# Altium schematic symbol library CBSchLib.SchLib: 33 symbols
Pins are listed as number, name and electrical type; pins without a type are passive.

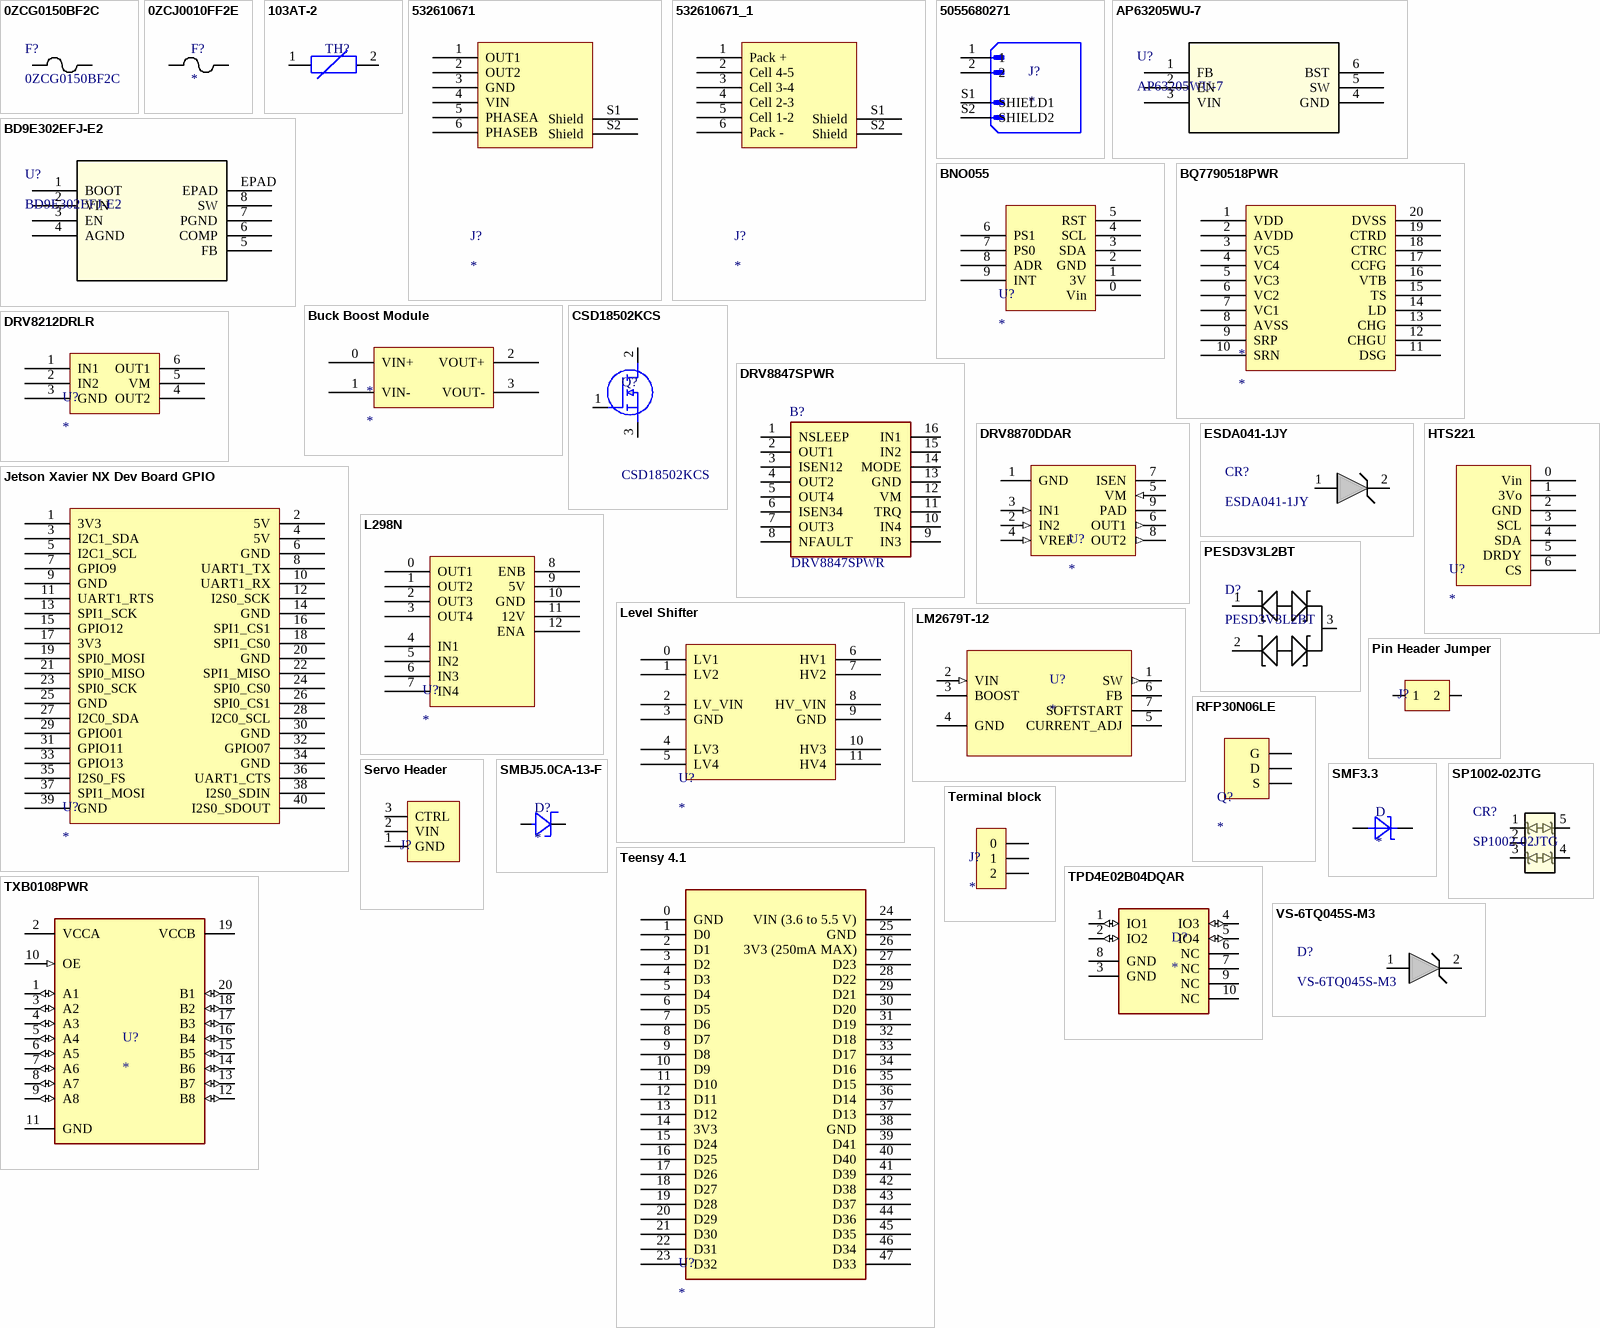
[diagram p0: symbols 0ZCG0150BF2C to VS-6TQ045S-M3]

## 0ZCG0150BF2C
designator F?
Polymeric PTC Resettable Fuse 24V 1.5 A Ih Surface Mount 1812 (4532 Metric), Concave; Mfr_Name: Belfuse; Type: DEV; Copyright: Copyright (C) 2023 Ultra Librarian. All rights reserved.; Manufacturer_Part_Number: 0ZCG0150BF2C; Digi-Key_Part_Number_1: 507-1773-1-ND; Digi-Key_Part_Number_2: 507-1773-2-ND; Digi-Key_Part_Number_3: 507-1773-6-ND; RefDes: RefDes
footprint 0ZCG_BEL
pins: 1, 2

## 0ZCJ0010FF2E
designator F?
Polymeric PTC Resettable Fuse 60V 100 mA Ih Surface Mount 1206 (3216 Metric), Concave; MP: 0ZCJ0010FF2E; MF: Bel Fuse; SnapEDA_Link: https://www.snapeda.com/parts/0ZCJ0010FF2E/Bel%20Fuse%20Inc./view-part/1315579/?ref=snap; Price: None; Package: 1206 Bel Fuse; Availability: Unavailable; Value: *
footprint RESC3216X125N
pins: 1, 2

## 103AT-2
designator TH?
NTC Thermistors 10kohm 1%
footprint 103At-2
pins: 1, 2

## 532610671
designator J?
Conn Shrouded Header (4 Sides) HDR 6 POS 1.25mm Solder RA Side Entry SMD PicoBlade™ T/R
footprint MOLEX_532610671
pins: 1 OUT1, 2 OUT2, 3 GND, 4 VIN, 5 PHASEA, 6 PHASEB, S1 Shield, S2 Shield

## 532610671_1
designator J?
Conn Shrouded Header (4 Sides) HDR 6 POS 1.25mm Solder RA Side Entry SMD PicoBlade™ T/R
footprint MOLEX_532610671
pins: 1 Pack +, 2 Cell 4-5, 3 Cell 3-4, 4 Cell 2-3, 5 Cell 1-2, 6 Pack -, S1 Shield, S2 Shield

## 5055680271
designator J?
1.25mm Pitch, Micro-Lock Plus PCB Header, Single Row, Vertical, Surface Mount, Tin-Bismuth Plating, Positive Lock, 2 Circuits, with Pick-and-Place Polyimide Tape, Black; MF: Molex; MP: 5055680271; Availability: In Stock; Price: None; Purchase-URL: https://pricing.snapeda.com/search/part/5055680271/?ref=eda; Package: None; SnapEDA_Link: https://www.snapeda.com/parts/5055680271/Molex/view-part/?ref=snap; Value: *; Check_prices: https://www.snapeda.com/parts/5055680271/Molex/view-part/?ref=eda
footprint MOLEX_5055680271
pins: 1, 2, S1 SHIELD1, S2 SHIELD2

## AP63205WU-7
designator U?
No Description Available; Mfr_Name: Diodes Inc; Copyright: Copyright (C) 2023 Ultra Librarian. All rights reserved.; Manufacturer_Part_Number: AP63205WU-7; Digi-Key_Part_Number_1: AP63205WU-7DITR-ND; Digi-Key_Part_Number_2: AP63205WU-7DICT-ND; Digi-Key_Part_Number_3: AP63205WU-7DIDKR-ND; RefDes: RefDes; Type: DEV
footprint SOIC_05WU-7_DIO
pins: 1 FB, 2 EN, 3 VIN, 4 GND, 5 SW, 6 BST

## BD9E302EFJ-E2
designator U?
No Description Available; Mfr_Name: ROHM Semiconductor; Copyright: Copyright (C) 2023 Ultra Librarian. All rights reserved.; Manufacturer_Part_Number: BD9E302EFJ-E2; Digi-Key_Part_Number_1: BD9E302EFJ-E2TR-ND; Digi-Key_Part_Number_2: BD9E302EFJ-E2CT-ND; Digi-Key_Part_Number_3: BD9E302EFJ-E2DKR-ND; RefDes: RefDes; Type: DEV
footprint HTSOP-J8_ROM
pins: 1 BOOT, 2 VIN, 3 EN, 4 AGND, 5 FB, 6 COMP, 7 PGND, 8 SW, EPAD

## BNO055
designator U?
footprint BNO555 - Header Mode
pins: 0 Vin, 1 3V, 2 GND, 3 SDA, 4 SCL, 5 RST, 6 PS1, 7 PS0, 8 ADR, 9 INT

## BQ7790518PWR
designator *
footprint SOP65P640X120-20N
pins: 1 VDD, 2 AVDD, 3 VC5, 4 VC4, 5 VC3, 6 VC2, 7 VC1, 8 AVSS, 9 SRP, 10 SRN, 11 DSG, 12 CHGU, 13 CHG, 14 LD, 15 TS, 16 VTB, 17 CCFG, 18 CTRC, 19 CTRD, 20 DVSS

## Buck Boost Module
designator *
Lowkey a placeholder
pins: 0 VIN+, 1 VIN-, 2 VOUT+, 3 VOUT-

## CSD18502KCS
designator Q?
40V, N ch NexFET MOSFET, single TO-220, 2.9mOhm; Manufacturer_Name: Texas Instruments; Geometry.Height: 4.7mm; Mouser Part Number: 595-CSD18502KCS; Mouser Price/Stock: https://www.mouser.co.uk/ProductDetail/Texas-Instruments/CSD18502KCS?qs=vnbNJPHmPnMgIZsUWlws9A%3D%3D; Manufacturer_Part_Number: CSD18502KCS; Datasheet Link: http://www.ti.com/lit/gpn/csd18502kcs
footprint TO254P470X1016X2005-3P
pins: 1 G, 2 D, 3 S

## DRV8212DRLR
designator U?
12-V, 2-A LOW VOLTAGE H-BRIDGE M
footprint SOT50P160X60-6N
pins: 1 IN1, 2 IN2, 3 GND, 4 OUT2, 5 VM, 6 OUT1

## DRV8847SPWR
designator B?
2A Dual H-Bridge Motor Driver; Manufacturer_Name: Texas Instruments; Geometry.Height: 1.2mm; Mouser Part Number: 595-DRV8847SPWR; Mouser Price/Stock: https://www.mouser.co.uk/ProductDetail/Texas-Instruments/DRV8847SPWR?qs=9r4v7xj2Lnlmf%252B8W7fojtg%3D%3D; Manufacturer_Part_Number: DRV8847SPWR; Datasheet Link: http://www.ti.com/lit/gpn/DRV8847
footprint SOP65P640X120-16N
pins: 1 NSLEEP, 2 OUT1, 3 ISEN12, 4 OUT2, 5 OUT4, 6 ISEN34, 7 OUT3, 8 NFAULT, 9 IN3, 10 IN4, 11 TRQ, 12 VM, 13 GND, 14 MODE, 15 IN2, 16 IN1

## DRV8870DDAR
designator U?
45-V, 3.6-A H-bridge motor driver with current regulation 8-SO PowerPAD -40 to 125; MP: DRV8870DDAR; MF: Texas Instruments; Package: HSOIC-8 Texas Instruments; Purchase-URL: https://pricing.snapeda.com/search/part/DRV8870DDAR/?ref=eda; Digi-Key_Part_Number: 296-42660-1-ND; SnapEDA_Link: https://www.snapeda.com/parts/DRV8870DDAR/Texas%20Instruments/view-part/591151/?ref=snap; Value: *
footprint VREG_LM5017MR/NOPB
pins: 1 GND (power), 2 IN2 (in), 3 IN1 (in), 4 VREF (in), 5 VM (in), 6 OUT1 (out), 7 ISEN (power), 8 OUT2 (out), 9 PAD (power)

## ESDA041-1JY
designator CR?
9V Clamp 20A (8/20µs) Ipp Tvs Diode Surface Mount SOD-323; Mfr_Name: STMicroelectronics; Type: DEV; Copyright: Copyright (C) 2023 Ultra Librarian. All rights reserved.; Manufacturer_Part_Number: ESDA041-1JY; Digi-Key_Part_Number_1: 497-ESDA041-1JYTR-ND; Digi-Key_Part_Number_2: 497-ESDA041-1JYCT-ND; Digi-Key_Part_Number_3: 497-ESDA041-1JYDKR-ND; RefDes: RefDes
footprint CR_041-1JY_STM
pins: 1 A, 2 K

## HTS221
designator U?
footprint HTS221
pins: 0 Vin, 1 3Vo, 2 GND, 3 SCL, 4 SDA, 5 DRDY, 6 CS

## Jetson Xavier NX Dev Board GPIO
designator U?
Just the GPIO expansion header for the Jetson Xavier NX Dev Board, this is so there is a contact point on the board placed next to the mount of the board to interface with other compenents
footprint Xavier Interface
pins: 1 3V3, 2 5V, 3 I2C1_SDA, 4 5V, 5 I2C1_SCL, 6 GND, 7 GPIO9, 8 UART1_TX, 9 GND, 10 UART1_RX, 11 UART1_RTS, 12 I2S0_SCK, 13 SPI1_SCK, 14 GND, 15 GPIO12, 16 SPI1_CS1, 17 3V3, 18 SPI1_CS0, 19 SPI0_MOSI, 20 GND, 21 SPI0_MISO, 22 SPI1_MISO, 23 SPI0_SCK, 24 SPI0_CS0, 25 GND, 26 SPI0_CS1, 27 I2C0_SDA, 28 I2C0_SCL, 29 GPIO01, 30 GND, 31 GPIO11, 32 GPIO07, 33 GPIO13, 34 GND, 35 I2S0_FS, 36 UART1_CTS, 37 SPI1_MOSI, 38 I2S0_SDIN, 39 GND, 40 I2S0_SDOUT

## L298N
designator U?
pins: 0 OUT1, 1 OUT2, 2 OUT3, 3 OUT4, 4 IN1, 5 IN2, 6 IN3, 7 IN4, 8 ENB, 9 5V, 10 GND, 11 12V, 12 ENA

## Level Shifter
designator U?
pins: 0 LV1, 1 LV2, 2 LV_VIN, 3 GND, 4 LV3, 5 LV4, 6 HV1, 7 HV2, 8 HV_VIN, 9 GND, 10 HV3, 11 HV4

## LM2679T-12
designator U?
IC BUCK 12V 5A; MP: LM2679T-12; Package: None; Price: None; Value: *; Availability: Unavailable
footprint TO127P457X1016X2052-7P
pins: 1 SW (out), 2 VIN (in), 3 BOOST, 4 GND, 5 CURRENT_ADJ, 6 FB, 7 SOFTSTART

## PESD3V3L2BT
designator D?
No Description Available; Mfr_Name: NXP; Type: DEV; Copyright: Copyright (C) 2023 Ultra Librarian. All rights reserved.; Manufacturer_Part_Number: PESD3V3L2BT; Digi-Key_Part_Number_1: 568-4041-2-ND; Digi-Key_Part_Number_2: 568-4041-1-ND; Digi-Key_Part_Number_3: 568-4041-6-ND; RefDes: RefDes
footprint SOT23_NXP-M
footprint SOT23_NXP-L
footprint SOT23_NXP
pins: 1, 2, 3

## Pin Header Jumper
designator J?
footprint Pin Header Jumper
pins: 1, 2

## RFP30N06LE
designator Q?
Standin fro PWM mosfet for Light bar
footprint PWM Fet
pins: 0 G, 1 D, 2 S

## Servo Header
designator J?
3P jumper header
footprint Servo Header
pins: 1 GND, 2 VIN, 3 CTRL

## SMBJ5.0CA-13-F
designator D?
DIODE ZENER 6.2V 600W
footprint SMB_DIO
pins: 1, 2

## SMF3.3
designator D
6.8V Clamp 30A Ipp Tvs Diode Surface Mount SOD-123FL; MP: SMF3.3; MF: Littelfuse Inc.; Digi-Key_Purchase_URL: https://www.digikey.ca/product-detail/en/littelfuse-inc/SMF3.3/F7701CT-ND/6189041?utm_source=snapeda&utm_medium=aggregator&utm_campaign=symbol; SnapEDA_Link: https://www.snapeda.com/parts/SMF3.3/Littelfuse%20Inc./view-part/814507/?ref=snap; Value: *; Digi-Key_Part_Number: F7701CT-ND; Package: SOD-123 Littelfuse
footprint SODFL3718X108N
pins: A C, C A

## SP1002-02JTG
designator CR?
No Description Available; Mfr_Name: Littelfuse Inc; Type: DEV; Copyright: Copyright (C) 2023 Ultra Librarian. All rights reserved.; Manufacturer_Part_Number: SP1002-02JTG; Digi-Key_Part_Number_1: F4238TR-ND; Digi-Key_Part_Number_2: F4238CT-ND; Digi-Key_Part_Number_3: F4238DKR-ND; RefDes: RefDes
footprint SC70-5_LTF
pins: 1, 2, 3, 4, 5

## Teensy 4.1
designator U?
This is a 1-1 model of the Teensy 4.1, each pin number represents the order in which they appear on the board. / ********The pins are labelled differently according their digital pin number so keep that in mind when referencing.
footprint Teensy 4.1 (Designators are set to match the actual number order of the pins, not their digital values.)
pins: 0 GND, 1 D0, 2 D1, 3 D2, 4 D3, 5 D4, 6 D5, 7 D6, 8 D7, 9 D8, 10 D9, 11 D10, 12 D11, 13 D12, 14 3V3, 15 D24, 16 D25, 17 D26, 18 D27, 19 D28, 20 D29, 21 D30, 22 D31, 23 D32, 24 VIN (3.6 to 5.5 V), 25 GND, 26 3V3 (250mA MAX), 27 D23, 28 D22, 29 D21, 30 D20, 31 D19, 32 D18, 33 D17, 34 D16, 35 D15, 36 D14, 37 D13, 38 GND, 39 D41, 40 D40, 41 D39, 42 D38, 43 D37, 44 D36, 45 D35, 46 D34, 47 D33

## Terminal block
designator J?
footprint Terminal Holes
pins: 0, 1, 2

## TPD4E02B04DQAR
designator D?
4-channel ESD protection diode for USB Type-C and HDMI 2.0 10-USON -40 to 125; MP: TPD4E02B04DQAR; MF: Texas Instruments; Value: *; Package: USON-10 Texas Instruments; Purchase-URL: https://pricing.snapeda.com/search/part/TPD4E02B04DQAR/?ref=eda; SnapEDA_Link: https://www.snapeda.com/parts/TPD4E02B04DQAR/Texas%20Instruments/view-part/576424/?ref=snap; Check_prices: https://www.snapeda.com/parts/TPD4E02B04DQAR/Texas%20Instruments/view-part/576424/?ref=eda; Digi-Key_Part_Number: 296-43875-1-ND
footprint DIO_TPD4E02B04DQAR
pins: 1 IO1 (io), 2 IO2 (io), 3 GND (power), 4 IO3 (io), 5 IO4 (io), 6 NC, 7 NC, 8 GND (power), 9 NC, 10 NC

## TXB0108PWR
designator U?
8-Bit Bidirectional Voltage-Level Shifter with Auto Direction Sensing and +/-15-kV ESD Protect; MP: TXB0108PWR; MF: Texas Instruments; SnapEDA_Link: https://www.snapeda.com/parts/TXB0108PWR/Texas+Instruments/view-part/?ref=snap; Package: TSSOP-20 Texas Instruments; Check_prices: https://www.snapeda.com/parts/TXB0108PWR/Texas+Instruments/view-part/?ref=eda; Purchase-URL: https://pricing.snapeda.com/search/part/TXB0108PWR/?ref=eda; Digi-Key_Part_Number: 296-21527-2-ND; Value: *
footprint SOP65P640X120-20N
pins: 1 A1 (io), 2 VCCA (power), 3 A2 (io), 4 A3 (io), 5 A4 (io), 6 A5 (io), 7 A6 (io), 8 A7 (io), 9 A8 (io), 10 OE (in), 11 GND (power), 12 B8 (io), 13 B7 (io), 14 B6 (io), 15 B5 (io), 16 B4 (io), 17 B3 (io), 18 B2 (io), 19 VCCB (power), 20 B1 (io)

## VS-6TQ045S-M3
designator D?
Schottky Diodes & Rectifiers Schottky - D2PAK-e3; Mfr_Name: STMicroelectronics; Manufacturer_Part_Number: ESDA041-1JY; Type: DEV; Copyright: Copyright (C) 2023 Ultra Librarian. All rights reserved.; Digi-Key_Part_Number_1: 497-ESDA041-1JYTR-ND; Digi-Key_Part_Number_2: 497-ESDA041-1JYCT-ND; Digi-Key_Part_Number_3: 497-ESDA041-1JYDKR-ND; RefDes: RefDes
footprint VS6TQ045SM3
pins: 1 A, 2 K